# EAGLE library part LM75BDP-NEW (library LM75BDP)
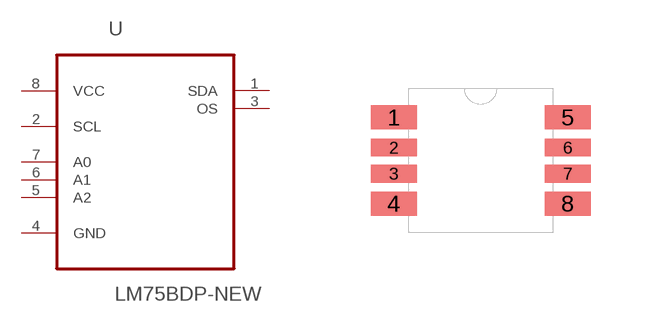
[diagram p1: symbol with the pads of SOT505-1; footprint SOT505-1]

Designator prefix -

## LM75BDP-NEW  [SOT505-1]
1  SDA
2  SCL  in
3  OS  out
4  GND  pas
5  A2  in
6  A1  in
7  A0  in
8  VCC  pwr

## Footprint SOT505-1 (pad centres in mm)
smd 1.15 x 0.6: 1 -2.175,1.077; 4 -2.175,-1.077; 5 2.175,1.077; 8 2.175,-1.077
smd 1.15 x 0.45: 2 -2.175,0.325; 3 -2.175,-0.325; 6 2.175,0.325; 7 2.175,-0.325